# Altium footprint library connectors.PcbLib: 4 footprints
Each footprint in its own frame and in the unit in brackets; x right, y up, seen from the top. Pads: shape width x height; smd on the part's side, far side on the other; paste and mask are expansions set on the pad; w line width, h text height; cw(c..) or ccw(c..) is an arc to the next point about the centre after c.
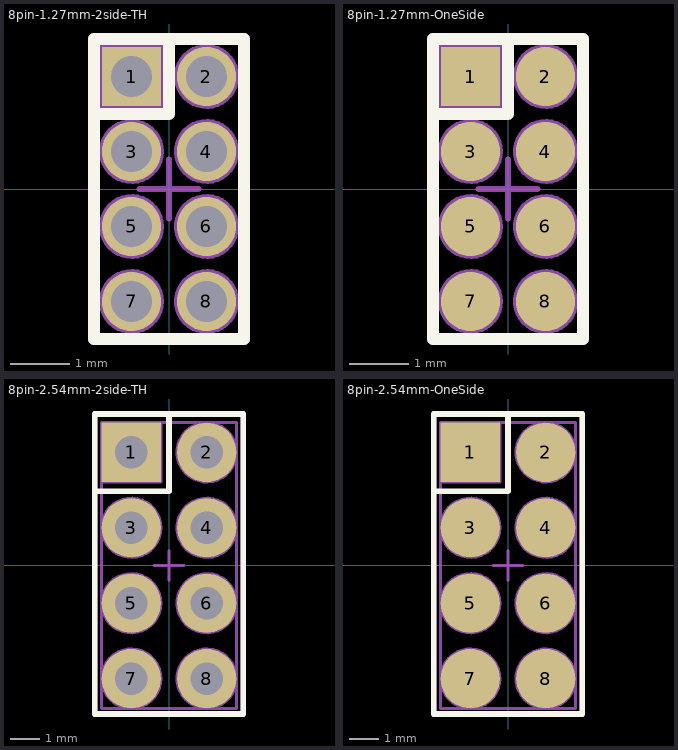
[diagram p0: the footprints below, top view; thin cyan lines are the x and y axes]

## 8pin-1.27mm-2side-TH [mm] "8 pin two side 1.27 pitch through hole connector"
pads (8):
  rect 1x1 hole 0.7: 1(-0.635,1.905)
  round 1 hole 0.7: 2(0.635,1.905) 3(-0.635,0.635) 4(0.635,0.635) 5(-0.635,-0.635) 6(0.635,-0.635) 7(-0.635,-1.905) 8(0.635,-1.905)
Top Overlay:
  lines w0.2: -1.27,1.27 0,1.27 0,2.54 ; -1.27,-2.54 1.27,-2.54 1.27,2.54 -1.27,2.54 -1.27,-2.54
Top Assembly:
  circle w0.1: c-0.635,1.905 r0.35
  circle w0.1: c0.635,1.905 r0.35
  circle w0.1: c0.635,1.905 r0.5
  circle w0.1: c-0.635,0.635 r0.35
  circle w0.1: c-0.635,0.635 r0.5
  circle w0.1: c0.635,0.635 r0.35
  circle w0.1: c0.635,0.635 r0.5
  circle w0.1: c-0.635,-0.635 r0.35
  circle w0.1: c-0.635,-0.635 r0.5
  circle w0.1: c0.635,-0.635 r0.35
  circle w0.1: c0.635,-0.635 r0.5
  circle w0.1: c-0.635,-1.905 r0.35
  circle w0.1: c-0.635,-1.905 r0.5
  circle w0.1: c0.635,-1.905 r0.35
  circle w0.1: c0.635,-1.905 r0.5
  lines w0.1: -1.135,1.405 -0.135,1.405 ; -1.135,1.405 -1.135,2.405 ; -1.135,1.405 -0.135,1.405 ; -1.135,1.405 -1.135,2.405 ; -1.135,2.405 -0.135,2.405 ; -1.135,2.405 -0.135,2.405 ; -0.135,1.405 -0.135,2.405 ; -0.135,1.405 -0.135,2.405 ; -1.27,-2.54 1.27,-2.54 1.27,2.54 -1.27,2.54 -1.27,-2.54
Bottom Assembly:
  circle w0.1: c-0.635,1.905 r0.35
  circle w0.1: c0.635,1.905 r0.35
  circle w0.1: c0.635,1.905 r0.5
  circle w0.1: c-0.635,0.635 r0.35
  circle w0.1: c-0.635,0.635 r0.5
  circle w0.1: c0.635,0.635 r0.35
  circle w0.1: c0.635,0.635 r0.5
  circle w0.1: c-0.635,-0.635 r0.35
  circle w0.1: c-0.635,-0.635 r0.5
  circle w0.1: c0.635,-0.635 r0.35
  circle w0.1: c0.635,-0.635 r0.5
  circle w0.1: c-0.635,-1.905 r0.35
  circle w0.1: c-0.635,-1.905 r0.5
  circle w0.1: c0.635,-1.905 r0.35
  circle w0.1: c0.635,-1.905 r0.5
  lines w0.1: -1.27,-2.54 1.27,-2.54 1.27,2.54 -1.27,2.54 -1.27,-2.54
Top Component Center:
  lines w0.1: -0.5,0 0.5,0 ; 0,-0.5 0,0.5
Top Component Outline:
  lines w0.2: -1.27,-2.54 1.27,-2.54 1.27,2.54 -1.27,2.54 -1.27,-2.54
Top Courtyard:
  lines w0.2: -1.27,-2.54 1.27,-2.54 1.27,2.54 -1.27,2.54 -1.27,-2.54
Top Designator:
  text "''.Designator''" at 0,0 h2.5
Top Value:
  text "''.Comment''" at 0,0 h2.5

## 8pin-1.27mm-OneSide [mm] "8 pin two side 1.27 pitch one side connector"
pads (8):
  rect 1x1 smd: 1(-0.635,1.905)
  round 1 smd: 2(0.635,1.905) 3(-0.635,0.635) 4(0.635,0.635) 5(-0.635,-0.635) 6(0.635,-0.635) 7(-0.635,-1.905) 8(0.635,-1.905)
Top Overlay:
  lines w0.2: -1.27,1.27 0,1.27 0,2.54 ; -1.27,-2.54 1.27,-2.54 1.27,2.54 -1.27,2.54 -1.27,-2.54
Top Assembly:
  circle w0.1: c-0.635,1.905 r0.35
  circle w0.1: c0.635,1.905 r0.35
  circle w0.1: c0.635,1.905 r0.5
  circle w0.1: c-0.635,0.635 r0.35
  circle w0.1: c-0.635,0.635 r0.5
  circle w0.1: c0.635,0.635 r0.35
  circle w0.1: c0.635,0.635 r0.5
  circle w0.1: c-0.635,-0.635 r0.35
  circle w0.1: c-0.635,-0.635 r0.5
  circle w0.1: c0.635,-0.635 r0.35
  circle w0.1: c0.635,-0.635 r0.5
  circle w0.1: c-0.635,-1.905 r0.35
  circle w0.1: c-0.635,-1.905 r0.5
  circle w0.1: c0.635,-1.905 r0.35
  circle w0.1: c0.635,-1.905 r0.5
  lines w0.1: -1.135,1.405 -1.135,2.405 ; -1.135,1.405 -0.135,1.405 ; -1.135,1.405 -1.135,2.405 ; -1.135,1.405 -0.135,1.405 ; -1.135,2.405 -0.135,2.405 ; -1.135,2.405 -0.135,2.405 ; -0.135,1.405 -0.135,2.405 ; -0.135,1.405 -0.135,2.405 ; -1.27,-2.54 1.27,-2.54 1.27,2.54 -1.27,2.54 -1.27,-2.54
Bottom Assembly:
  circle w0.1: c-0.635,1.905 r0.35
  circle w0.1: c0.635,1.905 r0.35
  circle w0.1: c0.635,1.905 r0.5
  circle w0.1: c-0.635,0.635 r0.35
  circle w0.1: c-0.635,0.635 r0.5
  circle w0.1: c0.635,0.635 r0.35
  circle w0.1: c0.635,0.635 r0.5
  circle w0.1: c-0.635,-0.635 r0.35
  circle w0.1: c-0.635,-0.635 r0.5
  circle w0.1: c0.635,-0.635 r0.35
  circle w0.1: c0.635,-0.635 r0.5
  circle w0.1: c-0.635,-1.905 r0.35
  circle w0.1: c-0.635,-1.905 r0.5
  circle w0.1: c0.635,-1.905 r0.35
  circle w0.1: c0.635,-1.905 r0.5
  lines w0.1: -1.27,-2.54 1.27,-2.54 1.27,2.54 -1.27,2.54 -1.27,-2.54
Top Component Center:
  lines w0.1: -0.5,0 0.5,0 ; 0,-0.5 0,0.5
Top Component Outline:
  lines w0.2: -1.27,-2.54 1.27,-2.54 1.27,2.54 -1.27,2.54 -1.27,-2.54
Top Courtyard:
  lines w0.2: -1.27,-2.54 1.27,-2.54 1.27,2.54 -1.27,2.54 -1.27,-2.54
Top Designator:
  text "''.Designator''" at 0,0 h2.5
Top Value:
  text "''.Comment''" at 0,0 h2.5

## 8pin-2.54mm-2side-TH [mm] "8 pin two side 2.54 pitch through hole connector"
pads (8):
  rect 2x2 hole 1.1: 1(-1.27,3.81)
  round 2 hole 1.1: 2(1.27,3.81) 3(-1.27,1.27) 4(1.27,1.27) 5(-1.27,-1.27) 6(1.27,-1.27) 7(-1.27,-3.81) 8(1.27,-3.81)
Top Overlay:
  lines w0.2: -2.5,2.5 0,2.5 0,5.1 ; -2.5,2.5 -2.5,-5 2.5,-5 2.5,5.1 0,5.1 ; -2.5,2.5 -2.5,5.1 0,5.1
Top Assembly:
  circle w0.1: c1.27,-3.81 r1
  circle w0.1: c-1.27,-3.81 r1
  circle w0.1: c-1.27,3.81 r0.55
  circle w0.1: c1.27,3.81 r0.55
  circle w0.1: c-1.27,1.27 r0.55
  circle w0.1: c1.27,1.27 r0.55
  circle w0.1: c-1.27,-1.27 r0.55
  circle w0.1: c1.27,-1.27 r0.55
  circle w0.1: c-1.27,-3.81 r0.55
  circle w0.1: c1.27,-3.81 r0.55
  circle w0.1: c1.27,3.81 r1
  circle w0.1: c-1.27,1.27 r1
  circle w0.1: c1.27,1.27 r1
  circle w0.1: c-1.27,-1.27 r1
  circle w0.1: c1.27,-1.27 r1
  lines w0.1: -2.27,2.81 -0.27,2.81 -0.27,4.81 -2.27,4.81 -2.27,2.81
  lines w0.2: -2.5,-5 2.5,-5 2.5,5.1 0,5.1 -2.5,5.1 -2.5,2.5 -2.5,-5
Bottom Assembly:
  circle w0.1: c1.27,-3.81 r1
  circle w0.1: c-1.27,-3.81 r1
  circle w0.1: c-1.27,3.81 r0.55
  circle w0.1: c1.27,3.81 r0.55
  circle w0.1: c-1.27,1.27 r0.55
  circle w0.1: c1.27,1.27 r0.55
  circle w0.1: c-1.27,-1.27 r0.55
  circle w0.1: c1.27,-1.27 r0.55
  circle w0.1: c-1.27,-3.81 r0.55
  circle w0.1: c1.27,-3.81 r0.55
  circle w0.1: c1.27,3.81 r1
  circle w0.1: c-1.27,1.27 r1
  circle w0.1: c1.27,1.27 r1
  circle w0.1: c-1.27,-1.27 r1
  circle w0.1: c1.27,-1.27 r1
  lines w0.1: -2.27,2.81 -0.27,2.81 -0.27,4.81 -2.27,4.81 -2.27,2.81
  lines w0.2: -2.5,-5 2.5,-5 2.5,5.1 0,5.1 -2.5,5.1 -2.5,2.5 -2.5,-5
Top Component Center:
  lines w0.1: -0.5,0 0.5,0 ; 0,-0.5 0,0.5
Top Component Outline:
  lines w0.1: -2.27,-4.81 -2.27,4.81 2.27,4.81 2.27,-4.81 -2.27,-4.81
Top Designator:
  text "''.Designator''" at 0,0 h2.5
Top Value:
  text "''.Comment''" at 0,0 h2.5

## 8pin-2.54mm-OneSide [mm] "8 pin one side 2.54 pitch connector"
pads (8):
  rect 2x2 smd: 1(-1.27,3.81)
  round 2 smd: 2(1.27,3.81) 3(-1.27,1.27) 4(1.27,1.27) 5(-1.27,-1.27) 6(1.27,-1.27) 7(-1.27,-3.81) 8(1.27,-3.81)
Top Overlay:
  lines w0.2: -2.5,2.5 0,2.5 0,5.1 ; -2.5,2.5 -2.5,-5 2.5,-5 2.5,5.1 0,5.1 ; -2.5,2.5 -2.5,5.1 0,5.1
Top Assembly:
  circle w0.1: c1.27,-3.81 r1
  circle w0.1: c-1.27,-3.81 r1
  circle w0.1: c-1.27,3.81 r0.55
  circle w0.1: c1.27,3.81 r0.55
  circle w0.1: c-1.27,1.27 r0.55
  circle w0.1: c1.27,1.27 r0.55
  circle w0.1: c-1.27,-1.27 r0.55
  circle w0.1: c1.27,-1.27 r0.55
  circle w0.1: c-1.27,-3.81 r0.55
  circle w0.1: c1.27,-3.81 r0.55
  circle w0.1: c1.27,3.81 r1
  circle w0.1: c-1.27,1.27 r1
  circle w0.1: c1.27,1.27 r1
  circle w0.1: c-1.27,-1.27 r1
  circle w0.1: c1.27,-1.27 r1
  lines w0.1: -2.27,2.81 -0.27,2.81 -0.27,4.81 -2.27,4.81 -2.27,2.81
  lines w0.2: -2.5,-5 2.5,-5 2.5,5.1 0,5.1 -2.5,5.1 -2.5,2.5 -2.5,-5
Bottom Assembly:
  circle w0.1: c1.27,-3.81 r1
  circle w0.1: c-1.27,-3.81 r1
  circle w0.1: c-1.27,3.81 r0.55
  circle w0.1: c1.27,3.81 r0.55
  circle w0.1: c-1.27,1.27 r0.55
  circle w0.1: c1.27,1.27 r0.55
  circle w0.1: c-1.27,-1.27 r0.55
  circle w0.1: c1.27,-1.27 r0.55
  circle w0.1: c-1.27,-3.81 r0.55
  circle w0.1: c1.27,-3.81 r0.55
  circle w0.1: c1.27,3.81 r1
  circle w0.1: c-1.27,1.27 r1
  circle w0.1: c1.27,1.27 r1
  circle w0.1: c-1.27,-1.27 r1
  circle w0.1: c1.27,-1.27 r1
  lines w0.1: -2.27,2.81 -0.27,2.81 -0.27,4.81 -2.27,4.81 -2.27,2.81
  lines w0.2: -2.5,-5 2.5,-5 2.5,5.1 0,5.1 -2.5,5.1 -2.5,2.5 -2.5,-5
Top Component Center:
  lines w0.1: -0.5,0 0.5,0 ; 0,-0.5 0,0.5
Top Component Outline:
  lines w0.1: -2.27,-4.81 -2.27,4.81 2.27,4.81 2.27,-4.81 -2.27,-4.81
Top Designator:
  text "''.Designator''" at 0,0 h2.5
Top Value:
  text "''.Comment''" at 0,0 h2.5